# Altium footprint library SON50P200X300X80-9N-D.PcbLib: 1 footprints
Each footprint in its own frame and in the unit in brackets; x right, y up, seen from the top. Pads: shape width x height; smd on the part's side, far side on the other; paste and mask are expansions set on the pad; w line width, h text height; cw(c..) or ccw(c..) is an arc to the next point about the centre after c.
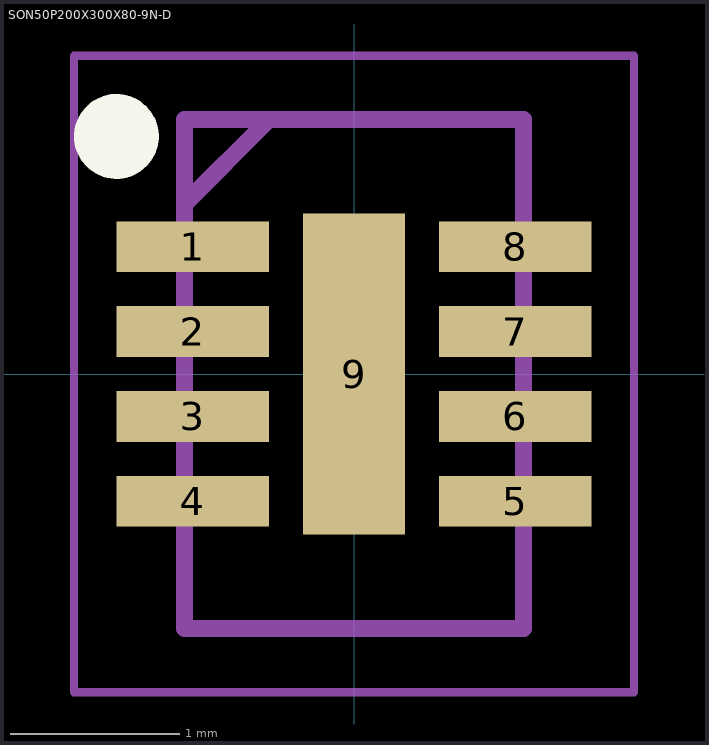
[diagram p0: the footprint, top view; thin cyan lines are the x and y axes]

## SON50P200X300X80-9N-D [mm]
pads (9):
  rect 0.9x0.3 smd: 1(-0.95,0.75) 2(-0.95,0.25) 3(-0.95,-0.25) 4(-0.95,-0.75) 5(0.95,-0.75) 6(0.95,-0.25) 7(0.95,0.25) 8(0.95,0.75)
  rect 0.6x1.89 smd: 9(0,0)
Top Overlay:
  circle w0.25: c-1.4,1.4 r0.125
Mechanical 15:
  lines w0.1: -1,1 -0.5,1.5 ; -1,-1.5 1,-1.5 1,1.5 -1,1.5 -1,-1.5
Mechanical 20:
  lines w0.05: -1.65,-1.875 1.65,-1.875 1.65,1.875 -1.65,1.875 -1.65,-1.875